# Altium schematic symbol library SK-14D01-G 6.Schlib: 1 symbol
Pins are listed as number, name and electrical type; pins without a type are passive.

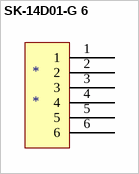
[diagram p0: symbol SK-14D01-G 6]

## SK-14D01-G 6
designator *
pins: 1, 2, 3, 4, 5, 6